# Altium footprint library C_0402.PcbLib: 1 footprints
Each footprint in its own frame and in the unit in brackets; x right, y up, seen from the top. Pads: shape width x height; smd on the part's side, far side on the other; paste and mask are expansions set on the pad; w line width, h text height; cw(c..) or ccw(c..) is an arc to the next point about the centre after c.
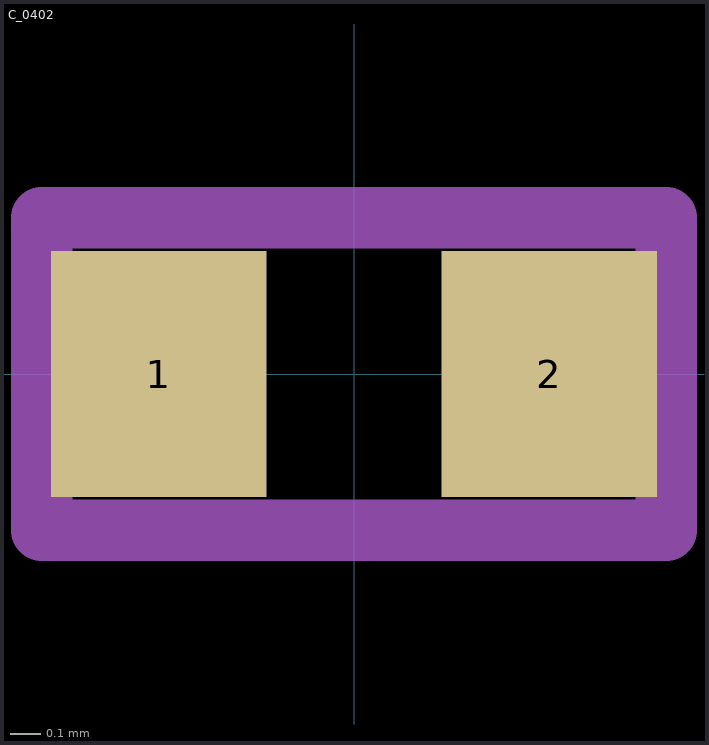
[diagram p0: the footprint, top view; thin cyan lines are the x and y axes]

## C_0402 [mm] "Chip Resistor, 2-Leads, Body 1,1x0,5mm, IPC Medium Density"
height 0.35
pads (2):
  rect 0.7x0.8 smd: 1(-0.635,0) 2(0.635,0)
Mechanical 13:
  lines w0.2: -1.016,-0.508 -1.016,0.508 1.016,0.508 1.016,-0.508 -1.016,-0.508
  text ".Designator" at -0.787,-0.305 h1
3D body: height 0.5, standoff 0, extent -0.5,-0.25 0.5,0.25